# EAGLE library part MC56F8006VLC (library freescale)
MC56F800x: MC56F8006 and MCF56F8002 Digital Signal Controllers <https://www.freescale.com/webapp/sps/site/prod_summary.jsp?code=MC56F800x> The devices in the MC56F8006 series are members of Freescale's family of digital signal controllers (DSCs). The entry-level MC56F8006/2 DSC provides the most cost-optimized solution for mathematically-intensive, power-sensitive real-time control applications.
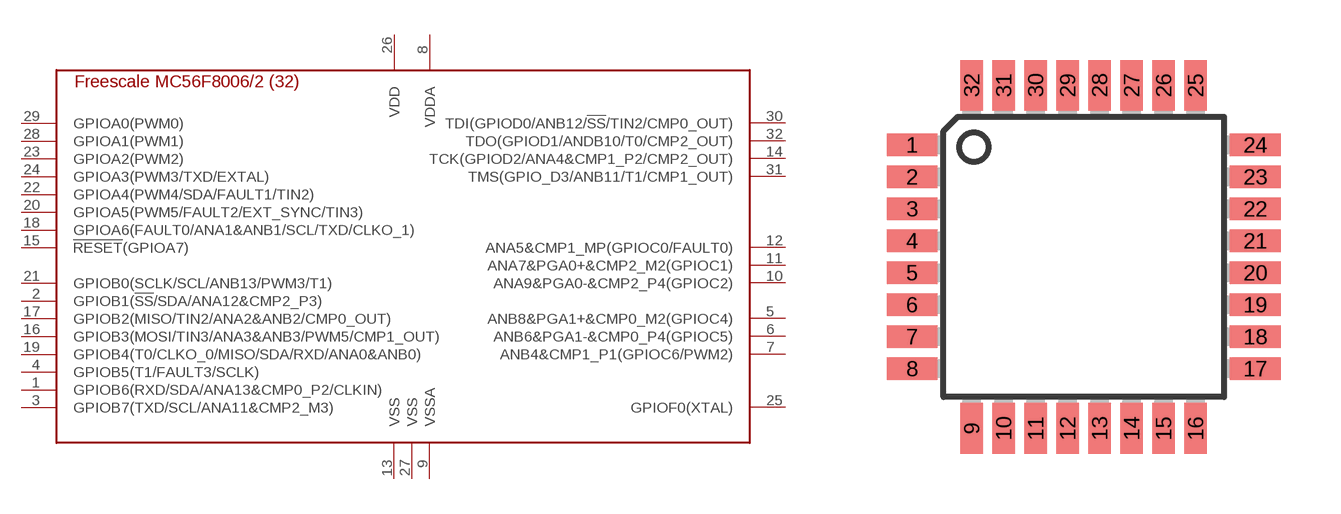
[diagram p0: symbol with the pads of TQFP32-08; footprint TQFP32-08]

Designator prefix -

## MC56F8006VLC  [TQFP32-08]
1  GPIOB6(RXD/SDA/ANA13&CMP0_P2/CLKIN)
2  GPIOB1(!SS!/SDA/ANA12&CMP2_P3)
3  GPIOB7(TXD/SCL/ANA11&CMP2_M3)
4  GPIOB5(T1/FAULT3/SCLK)
5  ANB8&PGA1+&CMP0_M2(GPIOC4)
6  ANB6&PGA1-&CMP0_P4(GPIOC5)
7  ANB4&CMP1_P1(GPIOC6/PWM2)
8  VDDA  pwr
9  VSSA  pwr
10  ANA9&PGA0-&CMP2_P4(GPIOC2)
11  ANA7&PGA0+&CMP2_M2(GPIOC1)
12  ANA5&CMP1_MP(GPIOC0/FAULT0)
13  VSS  pwr
14  TCK(GPIOD2/ANA4&CMP1_P2/CMP2_OUT)
15  !RESET!(GPIOA7)
16  GPIOB3(MOSI/TIN3/ANA3&ANB3/PWM5/CMP1_OUT)
17  GPIOB2(MISO/TIN2/ANA2&ANB2/CMP0_OUT)
18  GPIOA6(FAULT0/ANA1&ANB1/SCL/TXD/CLKO_1)
19  GPIOB4(T0/CLKO_0/MISO/SDA/RXD/ANA0&ANB0)
20  GPIOA5(PWM5/FAULT2/EXT_SYNC/TIN3)
21  GPIOB0(SCLK/SCL/ANB13/PWM3/T1)
22  GPIOA4(PWM4/SDA/FAULT1/TIN2)
23  GPIOA2(PWM2)
24  GPIOA3(PWM3/TXD/EXTAL)
25  GPIOF0(XTAL)
26  VDD  pwr
27  VSS  pwr
28  GPIOA1(PWM1)
29  GPIOA0(PWM0)
30  TDI(GPIOD0/ANB12/!SS!/TIN2/CMP0_OUT)
31  TMS(GPIO_D3/ANB11/T1/CMP1_OUT)
32  TDO(GPIOD1/ANDB10/T0/CMP2_OUT)

## Footprint TQFP32-08 (pad centres in mm)
Thin Plasic Quad Flat Package Grid 0.8 mm
smd 1.27 x 0.559: 1 -4.293,2.8; 2 -4.293,2; 3 -4.293,1.2; 4 -4.293,0.4; 5 -4.293,-0.4; 6 -4.293,-1.2; 7 -4.293,-2; 8 -4.293,-2.8; 17 4.293,-2.8; 18 4.293,-2; 19 4.293,-1.2; 20 4.293,-0.4; 21 4.293,0.4; 22 4.293,1.2; 23 4.293,2; 24 4.293,2.8
smd 0.559 x 1.27: 9 -2.8,-4.293; 10 -2,-4.293; 11 -1.2,-4.293; 12 -0.4,-4.293; 13 0.4,-4.293; 14 1.2,-4.293; 15 2,-4.293; 16 2.8,-4.293; 25 2.8,4.293; 26 2,4.293; 27 1.2,4.293; 28 0.4,4.293; 29 -0.4,4.293; 30 -1.2,4.293; 31 -2,4.293; 32 -2.8,4.293